# EAGLE library part CON_HEADER_2X04 (library dp_devices)
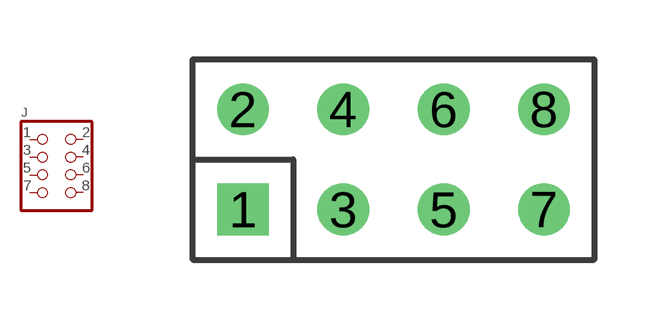
[diagram p11: symbol with the pads of M2X4; footprint M2X4]

Designator prefix J

## CON_HEADER_2X04-PTH  [M2X4]
1  P$1  pas
2  P$2  pas
3  P$3  pas
4  P$4  pas
5  P$5  pas
6  P$6  pas
7  P$7  pas
8  P$8  pas

## Footprint M2X4 (pad centres in mm)
drill 0.8 square: 1 -3.81,-1.27
drill 0.8: 2 -3.81,1.27; 3 -1.27,-1.27; 4 -1.27,1.27; 5 1.27,-1.27; 6 1.27,1.27; 7 3.81,-1.27; 8 3.81,1.27